# EAGLE library part RF_SWITCH (library Spark)
GaAs SPDT Switch DC - 3.0GHz+
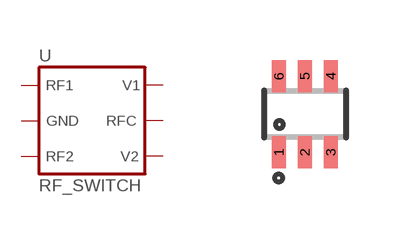
[diagram p1: symbol with the pads of SC70-6; footprint SC70-6]

Designator prefix -

## RF_SWITCHSC-70-6  [SC70-6]
1  RF1  out
2  GND  pwr
3  RF2  out
4  V2  in
5  RFC  in
6  V1  in

## Footprint SC70-6 (pad centres in mm)
6-Lead Thin Shrink Small Outline Transistor Package SC70 Source: http://www.analog.com/static/imported-files/data_sheets/ADA4853-1_4853-2_4853-3.pdf
smd 0.35 x 0.8: 1 -0.65,-0.95; 2 0,-0.95; 3 0.65,-0.95; 4 0.65,0.95; 5 0,0.95; 6 -0.65,0.95